# Altium integrated library TPS62840DLCR.IntLib: 1 symbol
Pins are listed as number, name and electrical type; pins without a type are passive.

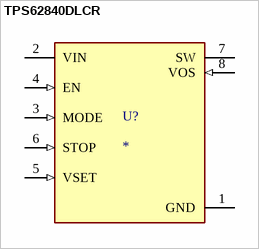
[diagram p0: symbol TPS62840DLCR]

## TPS62840DLCR
designator U?
None <a href="https://snapeda.com/parts/TPS62840DLCR/Texas%20Instruments/view-part/?ref=eda">Check prices</a>; Price: None; MP: TPS62840DLCR; Availability: Unavailable; Package: None; Value: *
footprint SON50P200X150X100-8N
pins: 1 GND (power), 2 VIN (power), 3 MODE (in), 4 EN (in), 5 VSET (in), 6 STOP (in), 7 SW (power), 8 VOS (in)